# Altium schematic symbol library CN HDR 8POS Molex 43045-0809 (R).Schlib: 1 symbol
Pins are listed as number, name and electrical type; pins without a type are passive.

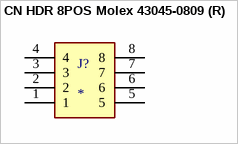
[diagram p0: symbol CN HDR 8POS Molex 43045-0809 (R)]

## CN HDR 8POS Molex 43045-0809 (R)
designator J?
Molex 43045-0809 8POS Microfit / dual row, right angle, surface mount
footprint CN 043045-0809 (Molex Micro-Fit 0430450 SMD 8CKT)
pins: 1, 2, 3, 4, 5, 6, 7, 8